# EAGLE library part CAT24C32 (library pi3_hat)
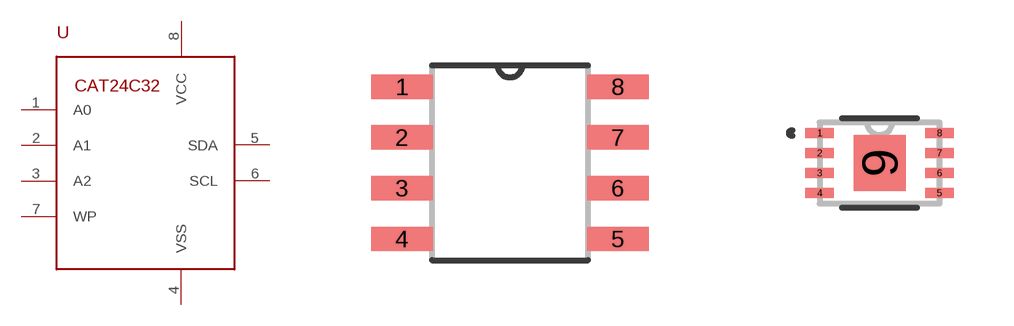
[diagram p9: symbol with the pads of SOIC8; footprints SOIC8, UDFN8_2X3_ONS]

Designator prefix U

## CAT24C32SOIC8  [SOIC8]
1  A0
2  A1
3  A2
4  VSS
5  SDA
6  SCL
7  WP
8  VCC

## CAT24C32UDFN8  [UDFN8_2X3_ONS]
Pads as for SOIC8

## Footprint SOIC8 (pad centres in mm)
smd 1.549 x 0.61: 1 -2.7,1.905; 2 -2.7,0.635; 3 -2.7,-0.635; 4 -2.7,-1.905; 5 2.7,-1.905; 6 2.7,-0.635; 7 2.7,0.635; 8 2.7,1.905

## Footprint UDFN8_2X3_ONS (pad centres in mm)
smd 0.711 x 0.254: 1 -1.499,0.75; 2 -1.499,0.25; 3 -1.499,-0.25; 4 -1.499,-0.75; 5 1.499,-0.75; 6 1.499,-0.25; 7 1.499,0.25; 8 1.499,0.75
smd 1.295 x 1.397: 9 0,0